# EAGLE library part TP4057 (library SparkFun-AnalogIC)
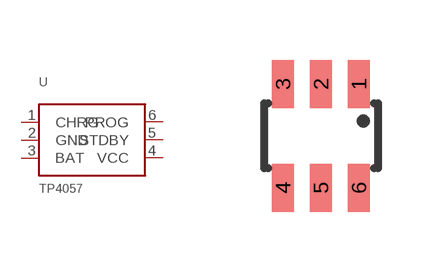
[diagram p52: symbol with the pads of SOT23-6; footprint SOT23-6]

Designator prefix -

## TP4057  [SOT23-6]
1  CHRG
2  GND
3  BAT
4  VCC
5  STDBY
6  PROG

## Footprint SOT23-6 (pad centres in mm)
smd 0.55 x 1.2: 1 0.95,1.3; 2 0,1.3; 3 -0.95,1.3; 4 -0.95,-1.3; 5 0,-1.3; 6 0.95,-1.3